# EAGLE library part SIC634CD-T1-GE3 (library SIC634CD-T1-GE3)
Gate Drivers 50A VRPower MLP55-31L Source: Datasheet <http://www.vishay.com/docs/76784/sic634.pdf>
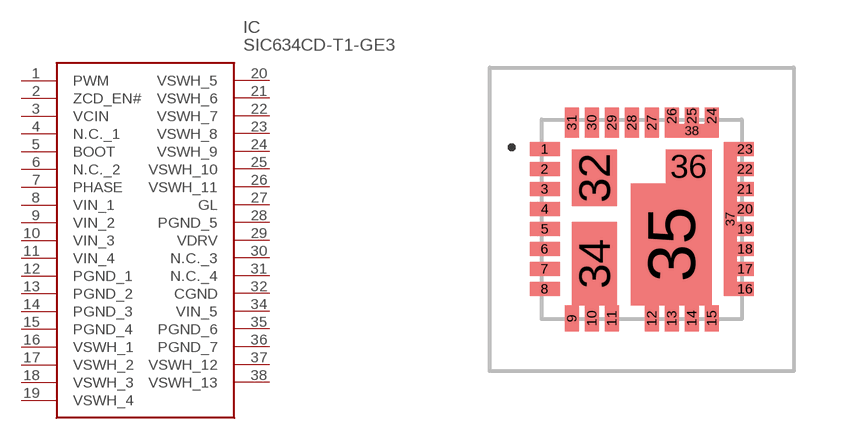
[diagram p0: symbol with the pads of SIC634CDT1GE3; footprint SIC634CDT1GE3]

Designator prefix IC

## SIC634CD-T1-GE3 (Description: Gate Drivers 50A VRPower MLP55-31L; Height: 0.8mm; Manufacturer_Name: Vishay; Manufacturer_Part_Number: SIC634CD-T1-GE3; Mouser_Part_Number: 78-SIC634CD-T1-GE3; Mouser_Price-Stock: https://www.mouser.co.uk/ProductDetail/Vishay-Semiconductors/SIC634CD-T1-GE3?qs=5aG0NVq1C4ySzpfRzdPOsQ%3D%3D)  [SIC634CDT1GE3]
1  PWM
2  ZCD_EN#
3  VCIN
4  N.C._1
5  BOOT
6  N.C._2
7  PHASE
8  VIN_1
9  VIN_2
10  VIN_3
11  VIN_4
12  PGND_1
13  PGND_2
14  PGND_3
15  PGND_4
16  VSWH_1
17  VSWH_2
18  VSWH_3
19  VSWH_4
20  VSWH_5
21  VSWH_6
22  VSWH_7
23  VSWH_8
24  VSWH_9
25  VSWH_10
26  VSWH_11
27  GL
28  PGND_5
29  VDRV
30  N.C._3
31  N.C._4
32  CGND
34  VIN_5
35  PGND_6
36  PGND_7
37  VSWH_12
38  VSWH_13

## Footprint SIC634CDT1GE3 (pad centres in mm)
PowerPAK MLP55-31L
smd 0.75 x 0.35: 1 -2.425,1.755; 2 -2.425,1.255; 3 -2.425,0.755; 4 -2.425,0.255; 5 -2.425,-0.245; 6 -2.425,-0.745; 7 -2.425,-1.245; 8 -2.425,-1.745
smd 0.35 x 0.65: 9 -1.745,-2.475; 10 -1.245,-2.475; 11 -0.745,-2.475; 12 0.255,-2.475; 13 0.755,-2.475; 14 1.255,-2.475; 15 1.755,-2.475
smd 0.42 x 0.35: 16 2.59,-1.745; 17 2.59,-1.245; 18 2.59,-0.745; 19 2.59,-0.245; 20 2.59,0.255; 21 2.59,0.755; 22 2.59,1.255; 23 2.59,1.755
smd 0.35 x 0.42: 24 1.755,2.59; 25 1.255,2.59; 26 0.755,2.59
smd 0.35 x 0.75: 27 0.255,2.425; 28 -0.245,2.425; 29 -0.745,2.425; 30 -1.245,2.425; 31 -1.745,2.425
smd 1.13 x 1.42: 32 -1.185,1.04
smd 1.13 x 2.08: 34 -1.185,-1.11
smd 2.02 x 3.05: 35 0.74,-0.625
smd 1.15 x 0.85: 36 1.175,1.325
smd 0.33 x 3.85: 37 2.215,0.005
smd 1.35 x 0.33: 38 1.255,2.215